# EAGLE library part IR2101 (library den)
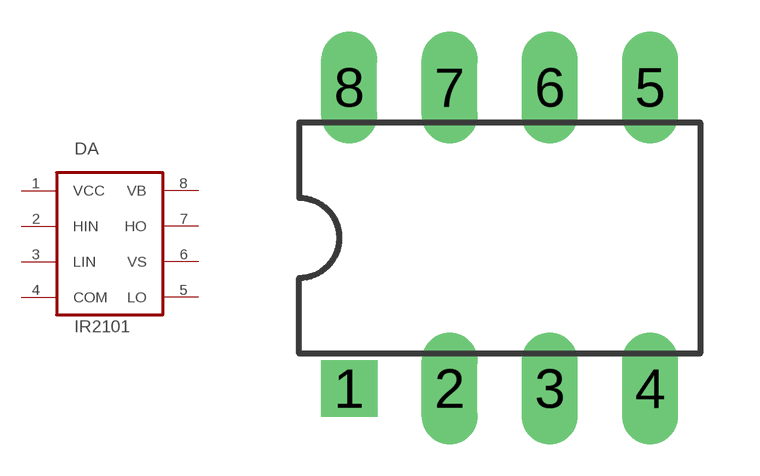
[diagram p38: symbol with the pads of DIL08; footprint DIL08]

Designator prefix DA

## IR2101  [DIL08]
1  VCC  pwr
2  HIN  in
3  LIN  in
4  COM  pwr
5  LO
6  VS  out
7  HO  out
8  VB  pwr

## Footprint DIL08 (pad centres in mm)
Dual In Line Package
drill 0.8 pad 1.422 square: 1 -3.81,-3.81
drill 0.8 pad 1.422 long: 2 -1.27,-3.81; 3 1.27,-3.81; 4 3.81,-3.81; 5 3.81,3.81; 6 1.27,3.81; 7 -1.27,3.81; 8 -3.81,3.81